# Altium footprint library CRISTAL E OSCILADORES.PcbLib: 6 footprints
Each footprint in its own frame and in the unit in brackets; x right, y up, seen from the top. Pads: shape width x height; smd on the part's side, far side on the other; paste and mask are expansions set on the pad; w line width, h text height; cw(c..) or ccw(c..) is an arc to the next point about the centre after c.
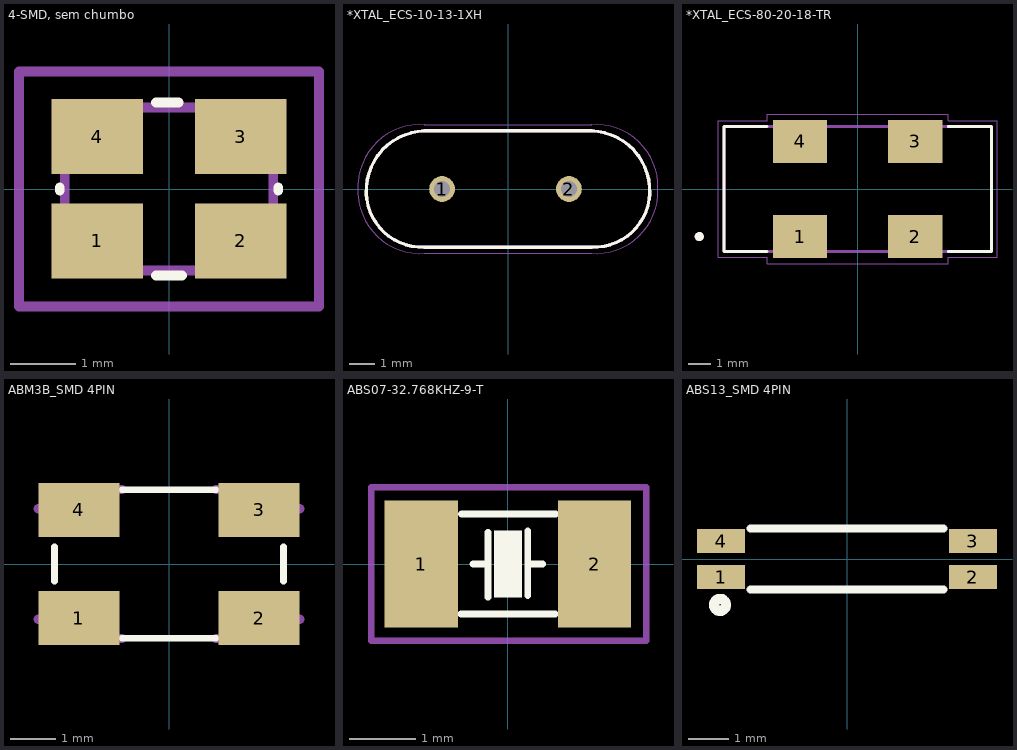
[diagram p0: the footprints below, top view; thin cyan lines are the x and y axes]

## 4-SMD, sem chumbo [mm] "32MHz ± 10ppm Cristal 8pF 40 Ohms 4-SMD, sem chumbo"
pads (4):
  rect 1.4x1.15 smd: 1(-1.1,-0.796) 2(1.1,-0.796) 3(1.1,0.804) 4(-1.1,0.804)
Top Overlay:
  lines w0.15: -1.675,-0.025 -1.675,0.025 ; -0.2,-1.325 0.2,-1.325 ; -0.2,1.325 0.15,1.325 ; 1.675,-0.025 1.675,0.025
Mechanical 4:
  lines w0.15: -1.6,-0.823 cw(c-1.6,-1.25) -1.173,-1.25 1.173,-1.25 cw(c1.6,-1.25) 1.6,-0.823 1.6,0.823 cw(c1.6,1.25) 1.173,1.25 -1.173,1.25 cw(c-1.6,1.25) -1.6,0.823 -1.6,-0.823
Mechanical 16:
  lines w0.15: -2.3,-1.8 2.3,-1.8 2.3,1.8 -2.3,1.8 -2.3,-1.8
3D body: height 0.65, standoff 0.05, extent -1.6,-1.2 1.6,1.3
3D body: height 0.68, standoff 0.05, extent -1.4,-1 1.4,1.1
3D body: height 0.75, standoff 0.05, extent -1.3,-0.9 1.3,1
3D body: height 0.05, standoff 0, extent -1.6,-1.2 -0.6,-0.275
3D body: height 0.05, standoff 0, extent -1.6,0.25 -0.675,1.25
3D body: height 0.05, standoff 0, extent 0.6,0.325 1.6,1.25
3D body: height 0.05, standoff 0, extent 0.675,-1.25 1.6,-0.25
3D body: height 1.65, standoff -1.65, extent -1.6,-1.2 -1.6,-1.2

## *XTAL_ECS-10-13-1XH [mm]
pads (2):
  round 1.03 hole 0.63: 1(-2.64,0) 2(2.44,0)
Top Overlay:
  lines w0.127: -5.675,-0.169 cw(c-3.26,-0.085) -3.344,2.33 ; -5.675,-0.168 ccw(c-3.435,-0.09) -3.357,-2.33 ; -3.35,-2.33 3.35,-2.33 ; -3.35,2.33 3.35,2.33 ; 3.344,2.33 cw(c3.26,-0.085) 5.675,-0.169 ; 3.357,-2.33 ccw(c3.435,-0.09) 5.675,-0.168
Mechanical 4:
  lines w0.127: -5.675,-0.169 cw(c-3.26,-0.085) -3.344,2.33 ccw(c-3.26,-0.085) -5.675,-0.169 ; -5.675,-0.168 ccw(c-3.435,-0.09) -3.357,-2.33 cw(c-3.435,-0.09) -5.675,-0.168 ; -3.35,-2.33 3.35,-2.33 -3.35,-2.33 ; -3.35,2.33 3.35,2.33 -3.35,2.33 ; 3.344,2.33 cw(c3.26,-0.085) 5.675,-0.169 ccw(c3.26,-0.085) 3.344,2.33 ; 3.357,-2.33 ccw(c3.435,-0.09) 5.675,-0.168 cw(c3.435,-0.09) 3.357,-2.33
Mechanical 16:
  lines w0.05: -5.999,-0.264 ccw(c-3.51,-0.09) -3.336,-2.579 ; -6,-0.25 -6,0.25 ; -5.999,0.264 cw(c-3.51,0.09) -3.336,2.579 ; -3.35,-2.58 3.35,-2.58 ; -3.35,2.58 3.35,2.58 ; 3.336,-2.579 ccw(c3.51,-0.09) 5.999,-0.264 ; 3.336,2.579 cw(c3.51,0.09) 5.999,0.264 ; 6,-0.25 6,0.25
3D body "User Library-HC49U.STEP": height 13.59, standoff -1.87, extent -5.582,-2.296 5.59,2.376

## *XTAL_ECS-80-20-18-TR [mm]
pads (4):
  rect 2.4x1.9 smd: 1(-2.54,-2.1) 2(2.54,-2.1) 3(2.54,2.1) 4(-2.54,2.1)
Top Overlay:
  circle w0.2: c-6.985,-2.099 r0.1
  lines w0.127: -4,-2.75 -5.9,-2.75 -5.9,2.75 -4,2.75 ; 4,-2.75 5.9,-2.75 5.9,2.75 4,2.75
Mechanical 4:
  circle w0.2: c-6.985,-2.099 r0.1
  circle w0.2: c-6.985,-2.099 r0.1
  lines w0.127: -5.9,-2.75 -5.9,2.75 ; -5.9,-2.75 5.9,-2.75 ; -5.9,-2.75 -5.9,2.75 ; -5.9,-2.75 5.9,-2.75 ; -5.9,2.75 5.9,2.75 ; -5.9,2.75 5.9,2.75 ; 5.9,-2.75 5.9,2.75 ; 5.9,-2.75 5.9,2.75
Mechanical 16:
  lines w0.05: -6.15,-3 -6.15,3 -3.99,3 -3.99,3.3 3.99,3.3 3.99,3 6.15,3 6.15,-3 3.99,-3 3.99,-3.3 -3.99,-3.3 -3.99,-3 -6.15,-3
3D body "ECS-100-18-18-TR--3DModel-STEP-40055.STEP": height 2.5, standoff 0, extent -5.975,-2.7 5.825,2.8

## ABM3B_SMD 4PIN [mm] "Cristal ABM3B smd 4pin, ABRACN"
height 1.1
pads (4):
  rect 1.8x1.2 smd: 1(-2,-1.2) 2(2,-1.2) 3(2,1.2) 4(-2,1.2)
Top Overlay:
  lines w0.15: -2.54,-0.381 -2.54,0.381 ; -1.05,-1.65 1.05,-1.65 ; -1.05,1.65 1.05,1.65 ; 2.54,-0.381 2.54,0.381
Mechanical 4:
  lines w0.203: -2.902,-1.225 cw(c-2.902,-1.652) -2.475,-1.652 ccw(c-2.902,-1.652) -2.902,-1.225 ; -2.902,1.225 ccw(c-2.902,1.652) -2.475,1.652 cw(c-2.902,1.652) -2.902,1.225 ; -2.475,-1.65 -1.05,-1.65 -2.475,-1.65 ; -2.475,1.65 -1.05,1.65 -2.475,1.65 ; 1.05,-1.65 2.475,-1.65 1.05,-1.65 ; 1.05,1.65 2.475,1.65 1.05,1.65 ; 2.475,-1.652 cw(c2.902,-1.652) 2.902,-1.225 ccw(c2.902,-1.652) 2.475,-1.652 ; 2.475,1.652 ccw(c2.902,1.652) 2.902,1.225 cw(c2.902,1.652) 2.475,1.652
3D body "User Library-ABM3B.STEP": height 1.08, standoff -0.01, extent -2.479,-1.61 2.521,1.59

## ABS07-32.768KHZ-9-T [mm] "32.768kHz ± 20ppm Cristal 9pF 70 kOhms 2-SMD, sem chumbo"
height 1
pads (2):
  rect 1.1x1.9 smd: 1(-1.3,0)
  rect 1.092x1.905 smd: 2(1.3,0)
Top Overlay:
  rectangle: -0.212,-0.5 0.212,0.5
  lines w0.1: -0.705,-0.751 0.708,-0.751 ; -0.696,0.749 0.717,0.749 ; -0.525,0 -0.3,0 ; -0.3,-0.5 -0.3,0.475 ; 0.3,-0.475 0.3,0.5 ; 0.3,0 0.525,0
Mechanical 16:
  lines w0.1: -2.05,-1.15 2.075,-1.15 2.075,1.15 -2.05,1.15 -2.05,-1.15
3D body "ABS07.STEP": height 0.91, standoff 0.02, extent -1.6,-0.749 1.6,0.749

## ABS13_SMD 4PIN [mm] "Cristal ABS13 smd 4pin, ABRACON"
height 1.3
pads (4):
  rect 1.2x0.6 smd: 1(-3.15,-0.45) 2(3.15,-0.45) 3(3.15,0.45) 4(-3.15,0.45)
Top Overlay:
  circle w0.254: c-3.175,-1.143 r0.15
  lines w0.2: -2.413,-0.762 2.413,-0.762 ; -2.413,0.762 2.413,0.762
3D body: height 1.3, standoff 0.01, extent -3.429,-0.762 3.429,0.762